# Altium schematic symbol library USB.SchLib: 9 symbols
Pins are listed as number, name and electrical type; pins without a type are passive.

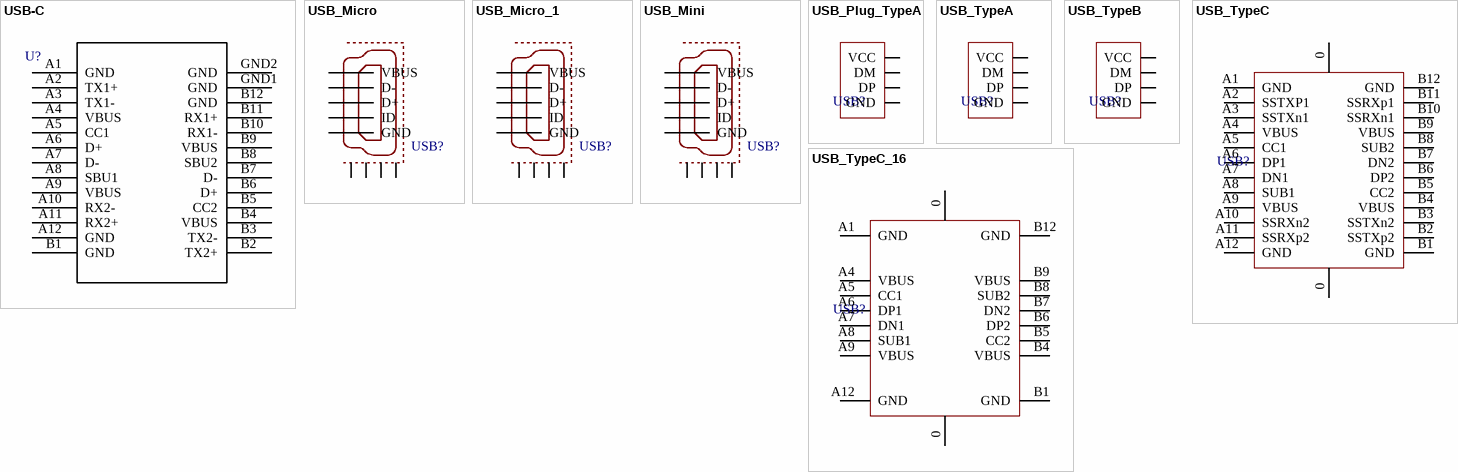
[diagram p0: symbols USB-C to USB_TypeC_16]

## USB-C
designator U?, comment USB  (value not drawn)
No Description Available; Manufacturer_Part_Number: 2305018-2; Vendor: TE Connectivity; Built_By: EMA_Cory; Copyright: Copyright (C) 2018 Accelerated Designs. All rights reserved; RefDes: RefDes; Type: DEV; Value: Value
footprint USB-C
pins: A1 GND, A2 TX1+, A3 TX1-, A4 VBUS, A5 CC1, A6 D+, A7 D-, A8 SBU1, A9 VBUS, A10 RX2-, A11 RX2+, A12 GND, B1 GND, B2 TX2+, B3 TX2-, B4 VBUS, B5 CC2, B6 D+, B7 D-, B8 SBU2, B9 VBUS, B10 RX1-, B11 RX1+, B12 GND, GND1 GND, GND2 GND

## USB_Micro
designator USB?, comment MicroUSB  (value not drawn)
USB
footprint USB_Micro-AB
footprint USB_Micro-B
footprint USB_Micro-A
pins: 0 GND, 0 GND, 0 GND, 0 GND, 1 VBUS (oe), 2 D-, 3 D+, 4 ID, 5 GND (oe)

## USB_Micro_1
designator USB?, comment MicroUSB  (value not drawn)
USB
footprint USB_Micro-AB
footprint USB_Micro-B
footprint USB_Micro-A
pins: 0 GND, 0 GND, 0 GND, 0 GND, 1 VBUS (oe), 2 D-, 3 D+, 4 ID, 5 GND (oe)

## USB_Mini
designator USB?, comment MiniUSB  (value not drawn)
USB
footprint USB_Mini-B
pins: 0 GND, 0 GND, 0 GND, 0 GND, 1 VBUS (oe), 2 D-, 3 D+, 4 ID, 5 GND (oe)

## USB_Plug_TypeA
designator USB?  (value not drawn)
USB
footprint USB_Plug_TypeA
pins: 1 VCC, 2 DM, 3 DP, 4 GND

## USB_TypeA
designator USB?  (value not drawn)
USB
footprint USB_TypeA
pins: 1 VCC, 2 DM, 3 DP, 4 GND

## USB_TypeB
designator USB?  (value not drawn)
USB
footprint USB_TypeB
pins: 1 VCC, 2 DM, 3 DP, 4 GND

## USB_TypeC
designator USB?  (value not drawn)
footprint USB_TYPEC (USB3.1 TYPEC)
pins: 0, 0, A1 GND, A2 SSTXP1, A3 SSTXn1, A4 VBUS, A5 CC1, A6 DP1, A7 DN1, A8 SUB1, A9 VBUS, A10 SSRXn2, A11 SSRXp2, A12 GND, B1 GND, B2 SSTXp2, B3 SSTXn2, B4 VBUS, B5 CC2, B6 DP2, B7 DN2, B8 SUB2, B9 VBUS, B10 SSRXn1, B11 SSRXp1, B12 GND

## USB_TypeC_16
designator USB?, comment USB_TypeC  (value not drawn)
footprint USB_TYPEC_16 (USB3.1 TYPEC)
pins: 0, 0, A1 GND, A4 VBUS, A5 CC1, A6 DP1, A7 DN1, A8 SUB1, A9 VBUS, A12 GND, B1 GND, B4 VBUS, B5 CC2, B6 DP2, B7 DN2, B8 SUB2, B9 VBUS, B12 GND